# EAGLE library part DS3231_RTC (library fablab_uchile)
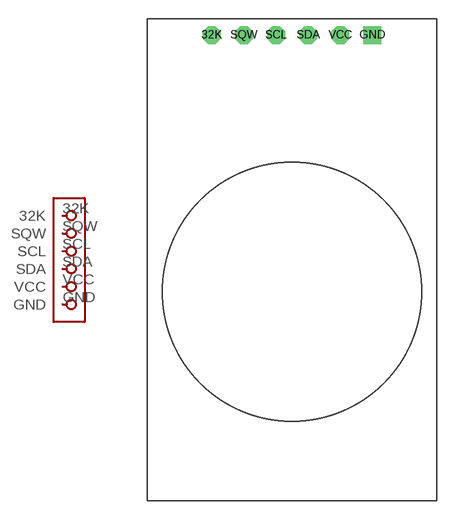
[diagram p2: symbol with the pads of DS3231_RTC; footprint DS3231_RTC]

Designator prefix -

## DS3231_RTC  [DS3231_RTC]
32K  32K
GND  GND
SCL  SCL
SDA  SDA
SQW  SQW
VCC  VCC

## Footprint DS3231_RTC (pad centres in mm)
drill 0.8 pad 1.422 octagon: 32K -6.35,10.16; SCL -1.27,10.16; SDA 1.27,10.16; SQW -3.81,10.16; VCC 3.81,10.16
drill 0.8 pad 1.422 square: GND 6.35,10.16